# Altium footprint library BELFUSE_CHIP1812.PcbLib: 1 footprints
Each footprint in its own frame and in the unit in brackets; x right, y up, seen from the top. Pads: shape width x height; smd on the part's side, far side on the other; paste and mask are expansions set on the pad; w line width, h text height; cw(c..) or ccw(c..) is an arc to the next point about the centre after c.
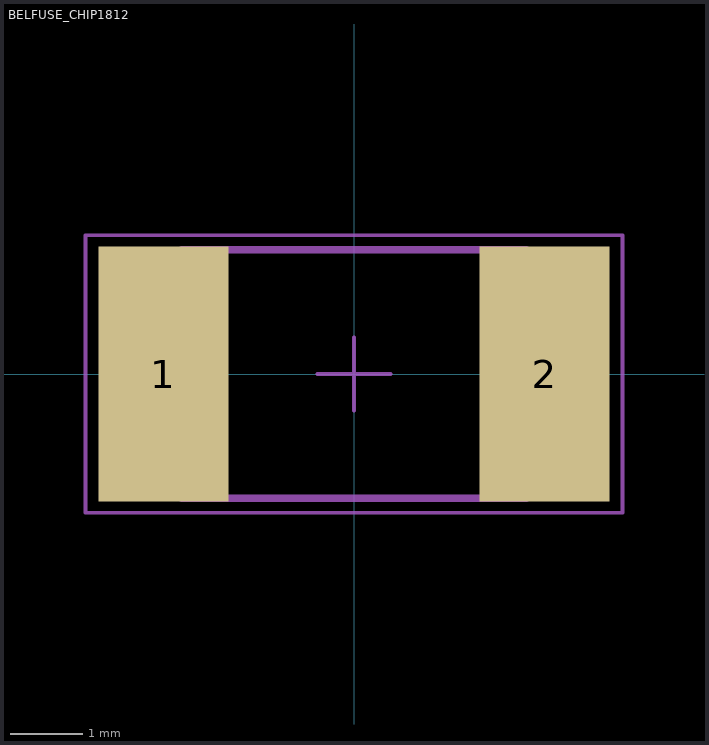
[diagram p0: the footprint, top view; thin cyan lines are the x and y axes]

## BELFUSE_CHIP1812 [mm] "BELFUSE_CHIP1812"
height 0.75
pads (2):
  rect 1.78x3.5 smd: 1(-2.615,0) 2(2.615,0)
Mechanical 13:
  lines w0.1: -2.365,-1.705 -2.365,1.705 2.365,1.705 2.365,-1.705 -2.365,-1.705
Mechanical 15:
  lines w0.05: -0.5,0 0.5,0 ; 0,-0.5 0,0.5 ; -3.683,-1.905 -3.683,1.905 3.683,1.905 3.683,-1.905 -3.683,-1.905
3D body "BELFUSE_CHIP1812.STEP": height 0.7, standoff 0, extent -2.275,-1.62 2.275,1.62